# Altium schematic symbol library Memory Flash NOR SPI.SchLib: 34 symbols
Pins are listed as number, name and electrical type; pins without a type are passive.

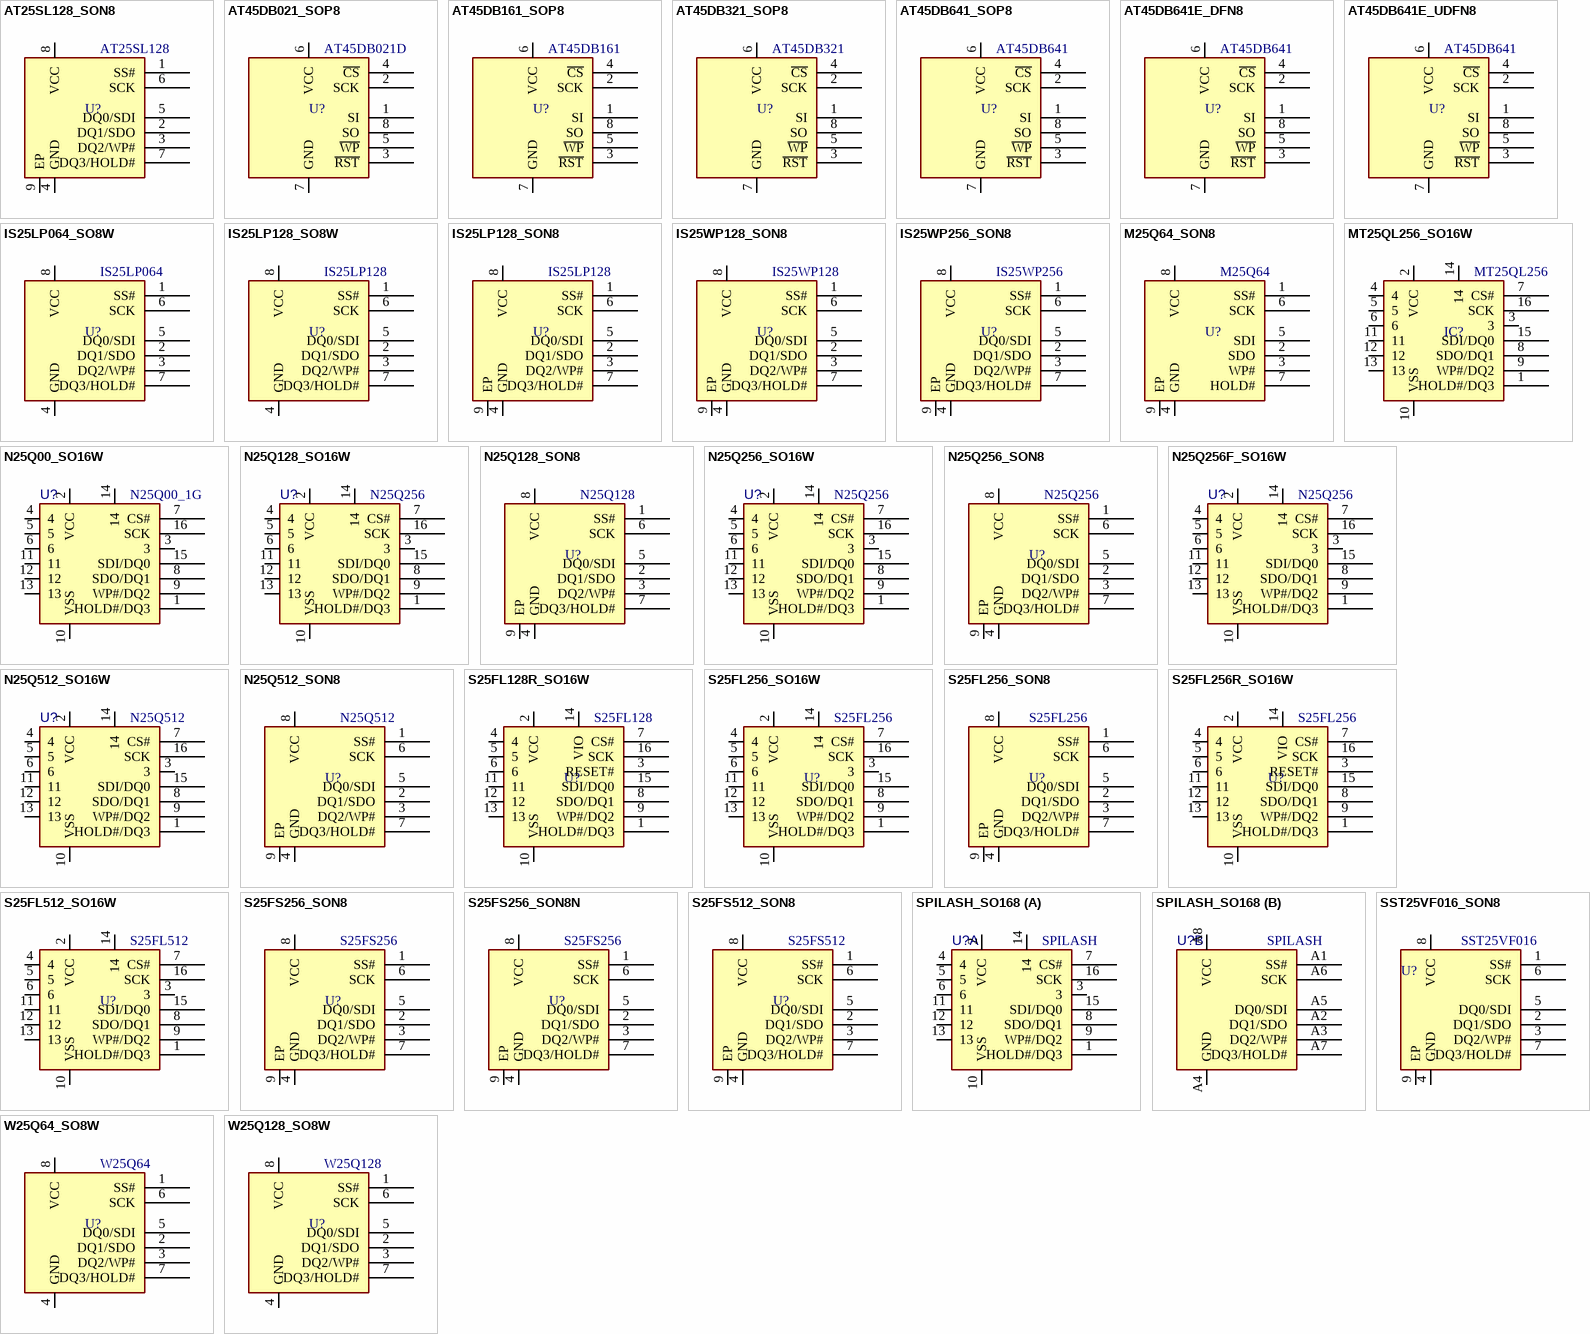
[diagram p0: symbols AT25SL128_SON8 to W25Q128_SO8W]

## AT25SL128_SON8
designator U?, comment AT25SL128
SPI FLASH Memory, 128Mb (16M x8), 104MHz, 1.8V; MANF: Adesto; MANF_P#: AT25SL128A-MHE; PARAM2: 1.7~2V; PARAM: 128Mb (16M x8), 104MHz; PRICE: 1.7$; VALUE: AT25SL128
footprint SON127_8T_5X6 (WSON8_6X5)
pins: 1 SS#, 2 DQ1/SDO, 3 DQ2/WP#, 4 GND, 5 DQ0/SDI, 6 SCK, 7 DQ3/HOLD#, 8 VCC, 9 EP

## AT45DB021_SOP8
designator U?, comment AT45DB021D
FLASH DATA, 2Mb, 70MHz; MANF: Atmel, Adesto; MANF_P#: AT45DB021E; PARAM2: 1.6~3.6V; PARAM: 2Mb, 70MHz; PRICE: 1$; VALUE: AT45DB021D
footprint SO_8 (SOP-8, 5x3.9mm body 1.27mm pitch, SOT96-1, M08A, S8, SOIC8, VO8, MS-012AA(JEDEC), R-8, 8S2, VOG8)
pins: 1 SI "Serial Input", 2 SCK "Serial clock", 3 ~{RST} "Reset", 4 ~{CS} "Chip select", 5 ~{WP} "Write protect", 6 VCC, 7 GND, 8 SO "Serial output"

## AT45DB161_SOP8
designator U?, comment AT45DB161
FLASH DATA, 16Mb, 70MHz; MANF: Atmel, Adesto; MANF_P#: AT45DB161E-SHD-T; PARAM2: 2.3~3.6V; PARAM: 16Mb, 70MHz; PRICE: 2.3$; VALUE: AT45DB161
footprint SO_8 (SOP-8, 5x3.9mm body 1.27mm pitch, SOT96-1, M08A, S8, SOIC8, VO8, MS-012AA(JEDEC), R-8, 8S2, VOG8)
pins: 1 SI "Serial Input", 2 SCK "Serial clock", 3 ~{RST} "Reset", 4 ~{CS} "Chip select", 5 ~{WP} "Write protect", 6 VCC, 7 GND, 8 SO "Serial output"

## AT45DB321_SOP8
designator U?, comment AT45DB321
FLASH DATA, 32Mb, 85MHz, NOR; MANF: Atmel, Adesto; MANF_P#: AT45DB321E-SHF; PARAM2: 2.3~3.6V; PARAM: 32Mb, 85MHz; PRICE: 2.6$; VALUE: AT45DB321
footprint SO_8 (SOP-8, 5x3.9mm body 1.27mm pitch, SOT96-1, M08A, S8, SOIC8, VO8, MS-012AA(JEDEC), R-8, 8S2, VOG8)
pins: 1 SI "Serial Input", 2 SCK "Serial clock", 3 ~{RST} "Reset", 4 ~{CS} "Chip select", 5 ~{WP} "Write protect", 6 VCC, 7 GND, 8 SO "Serial output"

## AT45DB641_SOP8
designator U?, comment AT45DB641
FLASH DATA, 64Mb, 85MHz, NOR; MANF: Atmel, Adesto; MANF_P#: AT45DB641E-SHN-T; PARAM2: 1.7~3.6V; PARAM: 64Mb, 85MHz; PRICE: 4.4$; VALUE: AT45DB641
footprint SO_8 (SOP-8, 5x3.9mm body 1.27mm pitch, SOT96-1, M08A, S8, SOIC8, VO8, MS-012AA(JEDEC), R-8, 8S2, VOG8)
pins: 1 SI "Serial Input", 2 SCK "Serial clock", 3 ~{RST} "Reset", 4 ~{CS} "Chip select", 5 ~{WP} "Write protect", 6 VCC, 7 GND, 8 SO "Serial output"

## AT45DB641E_DFN8
designator U?, comment AT45DB641
FLASH DATA, 64Mb, 85MHz, NOR; MANF: Atmel, Adesto; MANF_P#: AT45DB641E-MWHN-Y; PARAM2: 1.7~3.6V; PARAM: 64Mb, 85MHz; PRICE: 4.4$; VALUE: AT45DB641
footprint SON127_8_6X8 (WSON 8, 6X8, pitch: 1.27mm)
pins: 1 SI "Serial Input", 2 SCK "Serial clock", 3 ~{RST} "Reset", 4 ~{CS} "Chip select", 5 ~{WP} "Write protect", 6 VCC, 7 GND, 8 SO "Serial output"

## AT45DB641E_UDFN8
designator U?, comment AT45DB641
FLASH DATA, 64Mb, 85MHz, NOR; MANF: Atmel, Adesto; MANF_P#: AT45DB641E-MHN-Y; PARAM2: 1.7~3.6V; PARAM: 64Mb, 85MHz; PRICE: 4.4$; VALUE: AT45DB641
footprint SON127_8T_5X6 (WSON8_6X5)
pins: 1 SI "Serial Input", 2 SCK "Serial clock", 3 ~{RST} "Reset", 4 ~{CS} "Chip select", 5 ~{WP} "Write protect", 6 VCC, 7 GND, 8 SO "Serial output"

## IS25LP064_SO8W
designator U?, comment IS25LP064
SPI FLASH Memory, 64Mb (8M x8), 104MHz, 2.3~3.6V; MANF: ISSI; MANF_P#: IS25LP064-JBLE; PARAM2: 2.3~3.6V; PARAM: 64Mb (8M x8), 104MHz; PRICE: 1.3$; VALUE: IS25LP064
footprint SO_8_W (SOIC WIDE, 5x5.3mm body 0.5mm pitch, 5.28mm SOIJ)
pins: 1 SS#, 2 DQ1/SDO, 3 DQ2/WP#, 4 GND, 5 DQ0/SDI, 6 SCK, 7 DQ3/HOLD#, 8 VCC

## IS25LP128_SO8W
designator U?, comment IS25LP128
SPI FLASH Memory, 128Mb (16M x8), 104MHz, 2.3~3.6V; MANF: ISSI; MANF_P#: IS25LP128-JBLE; PARAM2: 2.3~3.6V; PARAM: 128Mb (16M x8), 104MHz; PRICE: 2.7$; VALUE: IS25LP128
footprint SO_8_W (SOIC WIDE, 5x5.3mm body 0.5mm pitch, 5.28mm SOIJ)
pins: 1 SS#, 2 DQ1/SDO, 3 DQ2/WP#, 4 GND, 5 DQ0/SDI, 6 SCK, 7 DQ3/HOLD#, 8 VCC

## IS25LP128_SON8
designator U?, comment IS25LP128
SPI FLASH Memory, 128Mb (16M x8), 104MHz, 2.3~3.6V; MANF: ISSI; MANF_P#: IS25LP128-JKLE; PARAM2: 2.3~3.6V; PARAM: 128Mb (16M x8), 104MHz; PRICE: 2.7$; VALUE: IS25LP128
footprint SON127_8T_5X6 (WSON8_6X5)
pins: 1 SS#, 2 DQ1/SDO, 3 DQ2/WP#, 4 GND, 5 DQ0/SDI, 6 SCK, 7 DQ3/HOLD#, 8 VCC, 9 EP

## IS25WP128_SON8
designator U?, comment IS25WP128
SPI FLASH Memory, 128Mb (16M x8), 104MHz, 1.65~1.95V; MANF: ISSI; MANF_P#: IS25WP128-JKLE; PARAM2: 1.65~1.95V; PARAM: 128Mb (16M x8), 104MHz; PRICE: 2.4$; VALUE: IS25WP128
footprint SON127_8T_5X6 (WSON8_6X5)
pins: 1 SS#, 2 DQ1/SDO, 3 DQ2/WP#, 4 GND, 5 DQ0/SDI, 6 SCK, 7 DQ3/HOLD#, 8 VCC, 9 EP

## IS25WP256_SON8
designator U?, comment IS25WP256
SPI FLASH Memory, 256Mb (32M x8), 104MHz; MANF: ISSI; MANF_P#: IS25WP256D-JLLE; PARAM2: 1.65~1.95V; PARAM: 256Mb (32M x8), 104MHz; PRICE: 4$; VALUE: IS25WP256
footprint SON127_8_6X8 (WSON 8, 6X8, pitch: 1.27mm)
pins: 1 SS#, 2 DQ1/SDO, 3 DQ2/WP#, 4 GND, 5 DQ0/SDI, 6 SCK, 7 DQ3/HOLD#, 8 VCC, 9 EP

## M25Q64_SON8
designator U?, comment M25Q64
SPI FLASH Memory, 64Mb (8M x8), 75MHz; MANF: Micron, Numonyx; MANF_P#: M25P64-VME6TG; PARAM2: 2.7~3.6V; PARAM: 64Mb (8M x8), 75MHz; PRICE: 2.4$; VALUE: M25Q64
footprint SON127_8_6X8 (WSON 8, 6X8, pitch: 1.27mm)
pins: 1 SS#, 2 SDO, 3 WP#, 4 GND, 5 SDI, 6 SCK, 7 HOLD#, 8 VCC, 9 EP

## MT25QL256_SO16W
designator IC?, comment MT25QL256
SPI FLASH Memory, 256Mb (32M x8), 104MHz; MANF: MICRON; MANF_P#: MT25QL256ABB8ESF0AIT; PARAM2: 2.7~3.6V; PARAM: 256Mb (32M x8), 104MHz; PRICE: 4.4$; VALUE: MT25QL256
footprint SO_16_W (SOP, SOIC, 7.5mm wide, 1.27mm pitch,)
pins: 1 HOLD#/DQ3, 2 VCC, 3, 4, 5, 6, 7 CS#, 8 SDO/DQ1, 9 WP#/DQ2, 10 VSS, 11, 12, 13, 14, 15 SDI/DQ0, 16 SCK

## N25Q00_SO16W
designator U?, comment N25Q00_1G
SPI FLASH Memory, 1Gb (256M x4), 108MHz; MANF: MICRON; DESC: DESCRIPTION; MANF_P#: N25Q00AA13GSF40G; PARAM2: 2.7~3.6V; ASSEMBLY: ASSEMBLY; PARAM: 1Gb (256M x4), 108MHz; PRICE: 13$; VALUE: N25Q00_1G
footprint SO_16_W (SOP, SOIC, 7.5mm wide, 1.27mm pitch,)
pins: 1 HOLD#/DQ3, 2 VCC, 3, 4, 5, 6, 7 CS#, 8 SDO/DQ1, 9 WP#/DQ2, 10 VSS, 11, 12, 13, 14, 15 SDI/DQ0, 16 SCK

## N25Q128_SO16W
designator U?, comment N25Q256
SPI FLASH Memory, 128Mb (16M x8), 104MHz, 1.8V; MANF: MICRON; DESC: DESCRIPTION; MANF_P#: N25Q128A21BSF40F; PARAM2: 1.7~2V; ASSEMBLY: ASSEMBLY; PARAM: 128Mb (16M x8); PRICE: PRICE; VALUE: N25Q256
footprint SO_16_W (SOP, SOIC, 7.5mm wide, 1.27mm pitch,)
pins: 1 HOLD#/DQ3, 2 VCC, 3, 4, 5, 6, 7 CS#, 8 SDO/DQ1, 9 WP#/DQ2, 10 VSS, 11, 12, 13, 14, 15 SDI/DQ0, 16 SCK

## N25Q128_SON8
designator U?, comment N25Q128
SPI FLASH Memory, 128Mb (32M x4), 108MHz; MANF: Micron; MANF_P#: N25Q128A13EF840E; PARAM2: 2.7~3.6V; PARAM: 128Mb (32M x4), 108MHz; PRICE: 3.2$; VALUE: N25Q128
footprint SON127_8_6X8 (WSON 8, 6X8, pitch: 1.27mm)
pins: 1 SS#, 2 DQ1/SDO, 3 DQ2/WP#, 4 GND, 5 DQ0/SDI, 6 SCK, 7 DQ3/HOLD#, 8 VCC, 9 EP

## N25Q256_SO16W
designator U?, comment N25Q256
SPI FLASH Memory, 256Mb (32M x8), 104MHz; MANF: MICRON; DESC: DESCRIPTION; MANF_P#: N25Q256A13ESF40G; PARAM2: 2.7~3.6V; ASSEMBLY: ASSEMBLY; PARAM: 256Mb (32M x8); PRICE: PRICE; VALUE: N25Q256
footprint SO_16_W (SOP, SOIC, 7.5mm wide, 1.27mm pitch,)
pins: 1 HOLD#/DQ3, 2 VCC, 3, 4, 5, 6, 7 CS#, 8 SDO/DQ1, 9 WP#/DQ2, 10 VSS, 11, 12, 13, 14, 15 SDI/DQ0, 16 SCK

## N25Q256_SON8
designator U?, comment N25Q256
SPI FLASH Memory, 256Mb (64M x4), 108MHz; MANF: Micron; MANF_P#: N25Q256A13EF840E; PARAM2: 2.7~3.6V; PARAM: 256Mb (64M x4), 108MHz; PRICE: 3.2$; VALUE: N25Q256
footprint SON127_8_6X8 (WSON 8, 6X8, pitch: 1.27mm)
pins: 1 SS#, 2 DQ1/SDO, 3 DQ2/WP#, 4 GND, 5 DQ0/SDI, 6 SCK, 7 DQ3/HOLD#, 8 VCC, 9 EP

## N25Q256F_SO16W
designator U?, comment N25Q256
SPI FLASH Memory, 256Mb (32M x8), 104MHz, 1.8V; MANF: MICRON; DESC: DESCRIPTION; MANF_P#: N25Q256A11ESF40F; ASSEMBLY: ASSEMBLY; PARAM: 256Mb (32M x8); PRICE: 3.6$; PARAM2: 1.8V; VALUE: N25Q256
footprint SO_16_W (SOP, SOIC, 7.5mm wide, 1.27mm pitch,)
pins: 1 HOLD#/DQ3, 2 VCC, 3, 4, 5, 6, 7 CS#, 8 SDO/DQ1, 9 WP#/DQ2, 10 VSS, 11, 12, 13, 14, 15 SDI/DQ0, 16 SCK

## N25Q512_SO16W
designator U?, comment N25Q512
SPI FLASH Memory, 512Mb (128M x4), 108MHz; MANF: MICRON; DESC: DESCRIPTION; MANF_P#: N25Q256A13ESF40G; PARAM2: 2.7~3.6V; ASSEMBLY: ASSEMBLY; PARAM: 512Mb (128M x4), 108MHz; PRICE: 11$; VALUE: N25Q512
footprint SO_16_W (SOP, SOIC, 7.5mm wide, 1.27mm pitch,)
pins: 1 HOLD#/DQ3, 2 VCC, 3, 4, 5, 6, 7 CS#, 8 SDO/DQ1, 9 WP#/DQ2, 10 VSS, 11, 12, 13, 14, 15 SDI/DQ0, 16 SCK

## N25Q512_SON8
designator U?, comment N25Q512
SPI FLASH Memory, 512Mb (128M x4), 108MHz; MANF: Micron; MANF_P#: N25Q512A13GF840E; PARAM2: 2.7~3.6V; PARAM: 512Mb (128M x4), 108MHz; VALUE: N25Q512
footprint SON127_8_6X8 (WSON 8, 6X8, pitch: 1.27mm)
pins: 1 SS#, 2 DQ1/SDO, 3 DQ2/WP#, 4 GND, 5 DQ0/SDI, 6 SCK, 7 DQ3/HOLD#, 8 VCC, 9 EP

## S25FL128R_SO16W
designator U?, comment S25FL128
SPI FLASH Memory, 128Mb (16M x8), 104MHz; MANF: SPANSION; MANF_P#: S25FL128SAGMFIR00; PARAM2: 2.7~3.6VCC, 1.65~3.6VIO; PARAM: 128Mb (16M x8), 104MHz; PRICE: 3$; VALUE: S25FL128
footprint SO_16_W (SOP, SOIC, 7.5mm wide, 1.27mm pitch,)
pins: 1 HOLD#/DQ3, 2 VCC, 3 RESET#, 4, 5, 6, 7 CS#, 8 SDO/DQ1, 9 WP#/DQ2, 10 VSS, 11, 12, 13, 14 VIO, 15 SDI/DQ0, 16 SCK

## S25FL256_SO16W
designator U?, comment S25FL256
SPI FLASH Memory, 256Mb (32M x8), 104MHz; MANF: SPANSION; MANF_P#: S25FL256SAGMFI00; PARAM2: 2.7~3.6V; PARAM: 256Mb (32M x8), 104MHz; PRICE: 4.4$; VALUE: S25FL256
footprint SO_16_W (SOP, SOIC, 7.5mm wide, 1.27mm pitch,)
pins: 1 HOLD#/DQ3, 2 VCC, 3, 4, 5, 6, 7 CS#, 8 SDO/DQ1, 9 WP#/DQ2, 10 VSS, 11, 12, 13, 14, 15 SDI/DQ0, 16 SCK

## S25FL256_SON8
designator U?, comment S25FL256
SPI FLASH Memory, 256Mb (32M x8), 104MHz; MANF: SPANSION; MANF_P#: S25FL256SAGNFI00; PARAM2: 2.7~3.6V; PARAM: 256Mb (32M x8), 104MHz; PRICE: 4.4$; VALUE: S25FL256
footprint SON127_8_6X8 (WSON 8, 6X8, pitch: 1.27mm)
pins: 1 SS#, 2 DQ1/SDO, 3 DQ2/WP#, 4 GND, 5 DQ0/SDI, 6 SCK, 7 DQ3/HOLD#, 8 VCC, 9 EP

## S25FL256R_SO16W
designator U?, comment S25FL256
SPI FLASH Memory, 256Mb (32M x8), 104MHz; MANF: SPANSION; MANF_P#: S25FL256SAGMFIR00; PARAM2: 2.7~3.6VCC, 1.65~3.6VIO; PARAM: 256Mb (32M x8), 104MHz; PRICE: 4.4$; VALUE: S25FL256
footprint SO_16_W (SOP, SOIC, 7.5mm wide, 1.27mm pitch,)
pins: 1 HOLD#/DQ3, 2 VCC, 3 RESET#, 4, 5, 6, 7 CS#, 8 SDO/DQ1, 9 WP#/DQ2, 10 VSS, 11, 12, 13, 14 VIO, 15 SDI/DQ0, 16 SCK

## S25FL512_SO16W
designator U?, comment S25FL512
SPI FLASH Memory, 512Mb (64M x8), 104MHz; MANF: SPANSION; MANF_P#: S25FL512SDPMFIG11; PARAM2: 2.7~3.6V; PARAM: 512Mb (64M x8), 104MHz; PRICE: 10$; VALUE: S25FL512
footprint SO_16_W (SOP, SOIC, 7.5mm wide, 1.27mm pitch,)
pins: 1 HOLD#/DQ3, 2 VCC, 3, 4, 5, 6, 7 CS#, 8 SDO/DQ1, 9 WP#/DQ2, 10 VSS, 11, 12, 13, 14, 15 SDI/DQ0, 16 SCK

## S25FS256_SON8
designator U?, comment S25FS256
SPI FLASH Memory, 256Mb (32M x8), 133MHz; MANF: CYPRESS; MANF_P#: S25FS256SAGNFI000, S25FS256SAGNFI001; PARAM2: 1.7~2V; PARAM: 256Mb (32M x8), 133MHz; PRICE: 5.7$; VALUE: S25FS256
footprint SON127_8_6X8 (WSON 8, 6X8, pitch: 1.27mm)
pins: 1 SS#, 2 DQ1/SDO, 3 DQ2/WP#, 4 GND, 5 DQ0/SDI, 6 SCK, 7 DQ3/HOLD#, 8 VCC, 9 EP

## S25FS256_SON8N
designator U?, comment S25FS256
SPI FLASH Memory, 256Mb (32M x8), 80MHz; MANF: CYPRESS; MANF_P#: S25FS256SDSNFI000; PARAM2: 1.7~2V; PARAM: 256Mb (32M x8), 80MHz; PRICE: 4.4$; VALUE: S25FS256
footprint SON127_8T_5X6 (WSON8_6X5)
pins: 1 SS#, 2 DQ1/SDO, 3 DQ2/WP#, 4 GND, 5 DQ0/SDI, 6 SCK, 7 DQ3/HOLD#, 8 VCC, 9 EP

## S25FS512_SON8
designator U?, comment S25FS512
SPI FLASH Memory, 512Mb (64M x8), 133MHz; MANF: CYPRESS; MANF_P#: S25FS512SAGNFI010; PARAM2: 1.7~2V; PARAM: 512Mb (64M x8), 133MHz; PRICE: 7$; VALUE: S25FS512
footprint SON127_8_6X8 (WSON 8, 6X8, pitch: 1.27mm)
pins: 1 SS#, 2 DQ1/SDO, 3 DQ2/WP#, 4 GND, 5 DQ0/SDI, 6 SCK, 7 DQ3/HOLD#, 8 VCC, 9 EP

## SPILASH_SO168
designator U?, comment SPILASH
SPI FLASH Memory, 64Mb (8M x8), 104MHz; MANF: MICRON; DESC: DESCRIPTION; MANF_P#: W25Q64FVSSIG SO8W, W25Q64FWZPIG SON8, W25Q64JVSFIQ SO16W; PARAM2: 2.7~3.6V; ASSEMBLY: ASSEMBLY; PARAM: 64Mb (8M x8), 104MHz; PRICE: 1$; VALUE: SPILASH
footprint SO168_SPIFLASH (SPI FLASH, footpirnt for SOP8W+SON8W+SOP16W)
part A pins: 1 HOLD#/DQ3, 2 VCC, 3, 4, 5, 6, 7 CS#, 8 SDO/DQ1, 9 WP#/DQ2, 10 VSS, 11, 12, 13, 14, 15 SDI/DQ0, 16 SCK
part B pins: A1 SS#, A2 DQ1/SDO, A3 DQ2/WP#, A4 GND, A5 DQ0/SDI, A6 SCK, A7 DQ3/HOLD#, A8 VCC

## SST25VF016_SON8
designator U?, comment SST25VF016
SPI FLASH Memory, 16Mb (2M x8), 75MHz, 8WSON; MANF: Microchip Technology; MANF_P#: SST25VF016B-75-4I-QAF; PARAM2: 2.7~3.6V; PARAM: 16M (2M x 8), 75MHz; PRICE: 1=1.58, 10=1.512, 25=1.4492, 100=1.16, 500=0.97, 1000=0.925 (USD); VALUE: SST25VF016
footprint SON127_8T_5X6 (WSON8_6X5)
pins: 1 SS#, 2 DQ1/SDO, 3 DQ2/WP#, 4 GND, 5 DQ0/SDI, 6 SCK, 7 DQ3/HOLD#, 8 VCC, 9 EP

## W25Q64_SO8W
designator U?, comment W25Q64
SPI FLASH Memory, 64Mb (8M x8), 104MHz; MANF: WINBOND; MANF_P#: W25Q64FVSSIG; PARAM2: 2.7~3.6V; PARAM: 64Mb (8M x8), 104MHz; PRICE: 1$; VALUE: W25Q64
footprint SO_8_W (SOIC WIDE, 5x5.3mm body 0.5mm pitch, 5.28mm SOIJ)
pins: 1 SS#, 2 DQ1/SDO, 3 DQ2/WP#, 4 GND, 5 DQ0/SDI, 6 SCK, 7 DQ3/HOLD#, 8 VCC

## W25Q128_SO8W
designator U?, comment W25Q128
SPI FLASH Memory, 128Mb (16M x8), 104MHz; MANF: WINBOND; MANF_P#: W25Q128FVSIG; PARAM2: 2.7~3.6V; PARAM: 128Mb (16M x8), 104MHz; PRICE: 1.6$; VALUE: W25Q128
footprint SO_8_W (SOIC WIDE, 5x5.3mm body 0.5mm pitch, 5.28mm SOIJ)
pins: 1 SS#, 2 DQ1/SDO, 3 DQ2/WP#, 4 GND, 5 DQ0/SDI, 6 SCK, 7 DQ3/HOLD#, 8 VCC